# EAGLE library part TPS61120 (library HAB)
TPS61120 Adjustable, 95% Efficient Boost Converter with 200-mA LDO for 1-Cell LiIon or Dual-Cell Applications
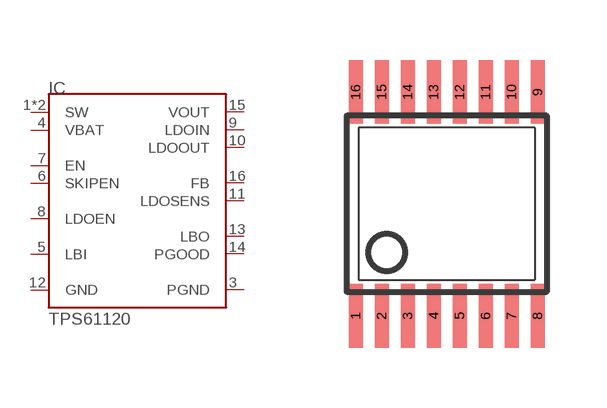
[diagram p3: symbol with the pads of TSSOP16; footprint TSSOP16]

Designator prefix IC

## TPS61120  [TSSOP16]
1  SW  pas
2  SW  pas
3  PGND  pwr
4  VBAT  pwr
5  LBI  in
6  SKIPEN  in
7  EN  in
8  LDOEN  in
9  LDOIN  pwr
10  LDOOUT  pwr
11  LDOSENS  in
12  GND  pwr
13  LBO  oc
14  PGOOD  oc
15  VOUT  pwr
16  FB  in

## Footprint TSSOP16 (pad centres in mm)
Thin Shrink Small Outline Plastic 16 TPS61120
smd 0.35 x 1.6: 1 -2.275,-2.8; 2 -1.625,-2.8; 3 -0.975,-2.8; 4 -0.325,-2.8; 5 0.325,-2.8; 6 0.975,-2.8; 7 1.625,-2.8; 8 2.275,-2.8; 9 2.275,2.8; 10 1.625,2.8; 11 0.975,2.8; 12 0.325,2.8; 13 -0.325,2.8; 14 -0.975,2.8; 15 -1.625,2.8; 16 -2.275,2.8